# EAGLE library part TFT_2.4 (library DAWA 6.1)
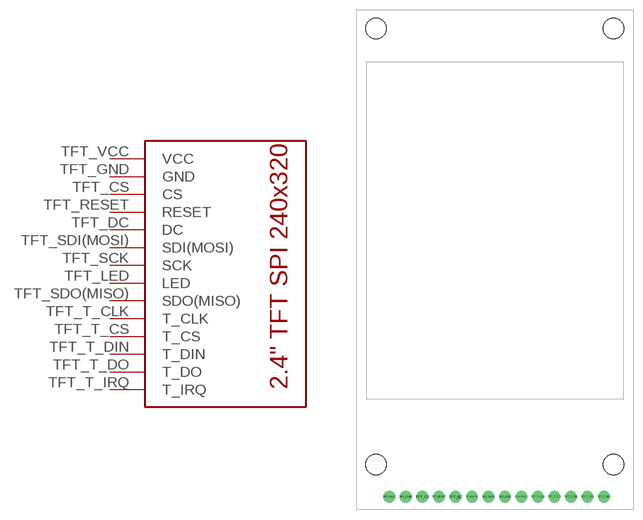
[diagram p1: symbol with the pads of TFT_2.4; footprint TFT_2.4]

Designator prefix -

## TFT_2.4  [TFT_2.4]
TFT_CS  CS
TFT_DC  DC
TFT_GND  GND
TFT_LED  LED
TFT_RESET  RESET
TFT_SCK  SCK
TFT_SDI(MOSI)  SDI(MOSI)
TFT_SDO(MISO)  SDO(MISO)
TFT_T_CLK  T_CLK
TFT_T_CS  T_CS
TFT_T_DIN  T_DIN
TFT_T_DO  T_DO
TFT_T_IRQ  T_IRQ
TFT_VCC  VCC

## Footprint TFT_2.4 (pad centres in mm)
drill 0.8 pad 1.778: TFT_CS -32.42,2; TFT_DC -27.34,2; TFT_GND -34.96,2; TFT_LED -19.72,2; TFT_RESET -29.88,2; TFT_SCK -22.26,2; TFT_SDI(MOSI) -24.8,2; TFT_SDO(MISO) -17.18,2; TFT_T_CLK -14.64,2; TFT_T_CS -12.1,2; TFT_T_DIN -9.56,2; TFT_T_DO -7.02,2; TFT_T_IRQ -4.48,2; TFT_VCC -37.5,2